# Altium footprint library PcbLib1.PcbLib: 3 footprints
Each footprint in its own frame and in the unit in brackets; x right, y up, seen from the top. Pads: shape width x height; smd on the part's side, far side on the other; paste and mask are expansions set on the pad; w line width, h text height; cw(c..) or ccw(c..) is an arc to the next point about the centre after c.
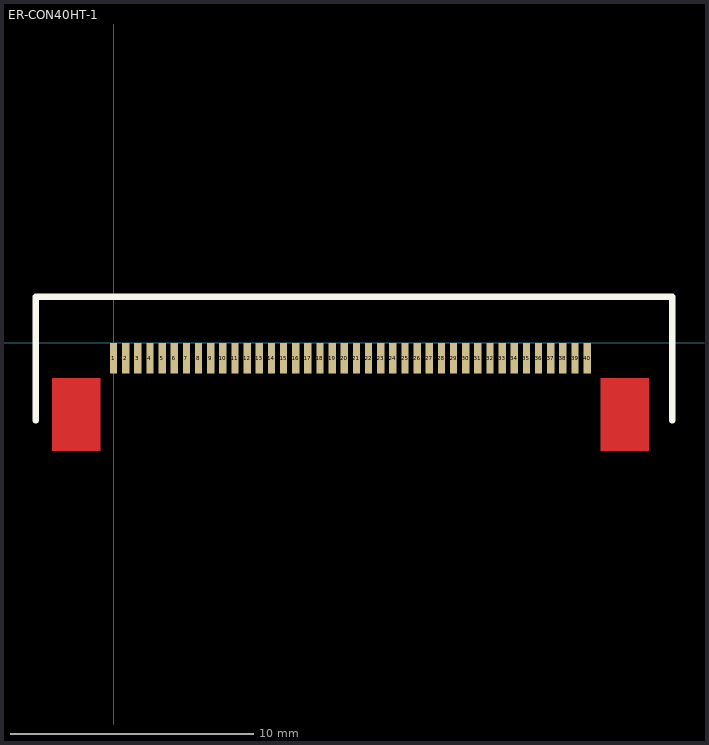
[diagram p0: the footprints below, top view; thin cyan lines are the x and y axes]

## ER-CON40HT-1 [mm]
pads (40):
  rect 0.3x1.25 smd mask+0.05: 1(0,-0.625) 2(0.5,-0.625) 3(1,-0.625) 4(1.5,-0.625) 5(2,-0.625) 6(2.5,-0.625) 7(3,-0.625) 8(3.5,-0.625) 9(4,-0.625) 10(4.5,-0.625) 11(5,-0.625) 12(5.5,-0.625) 13(6,-0.625) 14(6.5,-0.625) 15(7,-0.625) 16(7.5,-0.625) 17(8,-0.625) 18(8.5,-0.625) 19(9,-0.625) 20(9.5,-0.625) 21(10,-0.625) 22(10.5,-0.625) 23(11,-0.625) 24(11.5,-0.625) 25(12,-0.625) 26(12.5,-0.625) 27(13,-0.625) 28(13.5,-0.625) 29(14,-0.625) 30(14.5,-0.625) 31(15,-0.625) 32(15.5,-0.625) 33(16,-0.625) 34(16.5,-0.625) 35(17,-0.625) 36(17.5,-0.625) 37(18,-0.625) 38(18.5,-0.625) 39(19,-0.625) 40(19.5,-0.625)
Top Layer:
  region: 22.04,-1.45 20.04,-1.45 20.04,-4.45 22.04,-4.45
  rectangle: -2.54,-4.45 -0.54,-1.45
Top Overlay:
  lines w0.254: -3.2,-3.2 -3.2,1.9 23,1.9 23,-3.2
Top Solder:
  region: 22.05,-1.44 20.03,-1.44 20.03,-4.46 22.05,-4.46
  rectangle: -2.55,-4.46 -0.53,-1.44
3D body "er-con40ht-1.x_t": height 2, standoff 0, extent -3.075,-7.4 22.575,-0.1

## PCBComponent_1 [mm]

## PCBComponent_1 - duplicate [mm]